# EAGLE library part PINHD6 (library rlc)
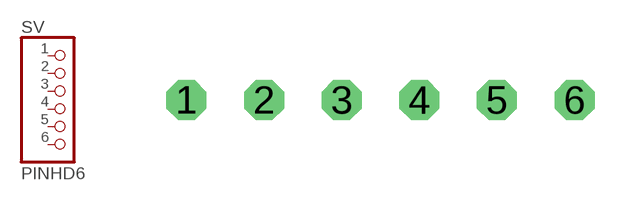
[diagram p1: symbol with the pads of HOLES6; footprint HOLES6]

Designator prefix SV

## PINHD6  [HOLES6]
1  1  pas
2  2  pas
3  3  pas
4  4  pas
5  5  pas
6  6  pas

## Footprint HOLES6 (pad centres in mm)
drill 0.8 octagon: 1 -6.35,0; 2 -3.81,0; 3 -1.27,0; 4 1.27,0; 5 3.81,0; 6 6.35,0